# EAGLE library part XH_8P (library user_conector)
jst JQコネクタ8pin ベース付きポスト 基板対基板コネクタ
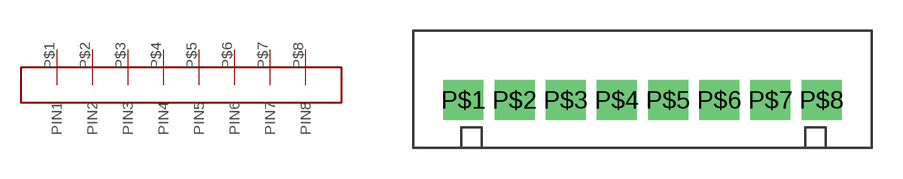
[diagram p7: symbol with the pads of XH_8P; footprint XH_8P]

Designator prefix CON

## XH_8P  [XH_8P]
P$1  PIN1
P$2  PIN2
P$3  PIN3
P$4  PIN4
P$5  PIN5
P$6  PIN6
P$7  PIN7
P$8  PIN8

## Footprint XH_8P (pad centres in mm)
drill 1.3 square: P$1 2.45,2.35; P$2 4.95,2.35; P$3 7.45,2.35; P$4 9.95,2.35; P$5 12.45,2.35; P$6 14.95,2.35; P$7 17.45,2.35; P$8 19.95,2.35